# Altium footprint library NFD17E09SAFC1DA.PcbLib: 1 footprints
Each footprint in its own frame and in the unit in brackets; x right, y up, seen from the top. Pads: shape width x height; smd on the part's side, far side on the other; paste and mask are expansions set on the pad; w line width, h text height; cw(c..) or ccw(c..) is an arc to the next point about the centre after c.
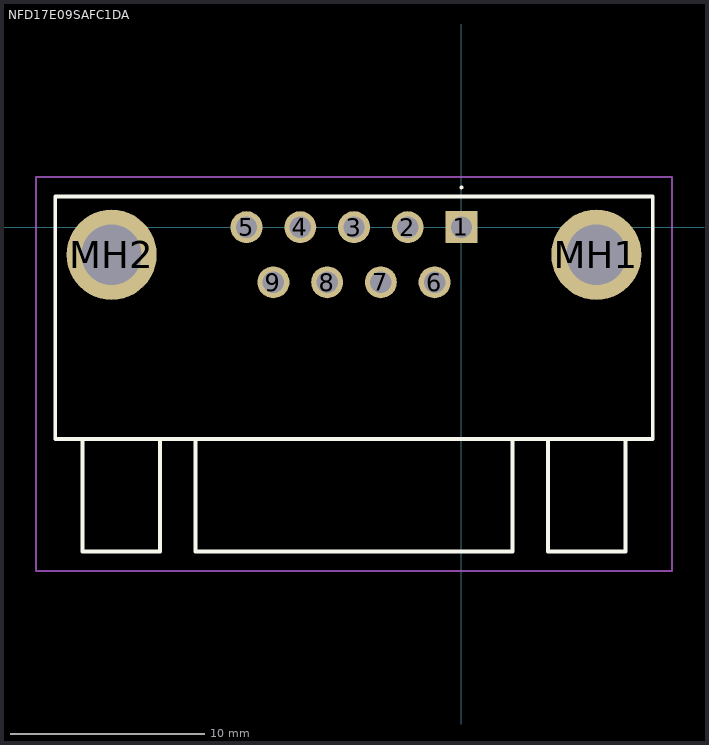
[diagram p0: the footprint, top view; thin cyan lines are the x and y axes]

## NFD17E09SAFC1DA [mm]
pads (11):
  rect 1.65x1.65 hole 1.1: 1(0,0)
  round 1.65 hole 1.1: 2(-2.77,0) 3(-5.54,0) 4(-8.31,0) 5(-11.08,0) 6(-1.385,-2.84) 7(-4.155,-2.84) 8(-6.925,-2.84) 9(-9.695,-2.84)
  round 4.65 hole 3.1: MH1(6.955,-1.42) MH2(-18.035,-1.42)
Top Overlay:
  lines w0.1: 0,2 ccw(c0,2.05) 0,2.1 ccw(c0,2.05) 0,2
  lines w0.2: -19.54,-10.92 -19.54,-16.72 -15.54,-16.72 -15.54,-10.92 ; -13.705,-10.92 -13.705,-16.72 2.625,-16.72 2.625,-10.92 ; 4.46,-10.92 4.46,-16.72 8.46,-16.72 8.46,-10.92 ; -20.945,-10.92 9.865,-10.92 9.865,1.58 -20.945,1.58 -20.945,-10.92
Mechanical 15:
  lines w0.1: -19.54,-10.92 -19.54,-16.72 -15.54,-16.72 -15.54,-10.92 ; -13.705,-10.92 -13.705,-16.72 2.625,-16.72 2.625,-10.92 ; 4.46,-10.92 4.46,-16.72 8.46,-16.72 8.46,-10.92 ; -20.945,-10.92 9.865,-10.92 9.865,1.58 -20.945,1.58 -20.945,-10.92
Mechanical 20:
  lines w0.1: -21.945,-17.72 10.865,-17.72 10.865,2.58 -21.945,2.58 -21.945,-17.72
3D body "NFD17E09SAFC1DA.stp": height 12.7, standoff -3.05, extent -20.866,-16.795 9.944,1.559